# Altium schematic symbol library USB MICRO USB_AB_BM_SHS.SchLib: 1 symbol
Pins are listed as number, name and electrical type; pins without a type are passive.

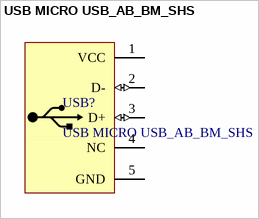
[diagram p0: symbol USB MICRO USB_AB_BM_SHS]

## USB MICRO USB_AB_BM_SHS
designator USB?
footprint USB MICRO USB_AB_BM_SHS
pins: 1 VCC (power), 2 D- (io), 3 D+ (io), 4 NC, 5 GND (power)